# Altium footprint library PcbLib1.PcbLib: 21 footprints (part 2 of 2)
Each footprint in its own frame and in the unit in brackets; x right, y up, seen from the top. Pads: shape width x height; smd on the part's side, far side on the other; paste and mask are expansions set on the pad; w line width, h text height; cw(c..) or ccw(c..) is an arc to the next point about the centre after c.
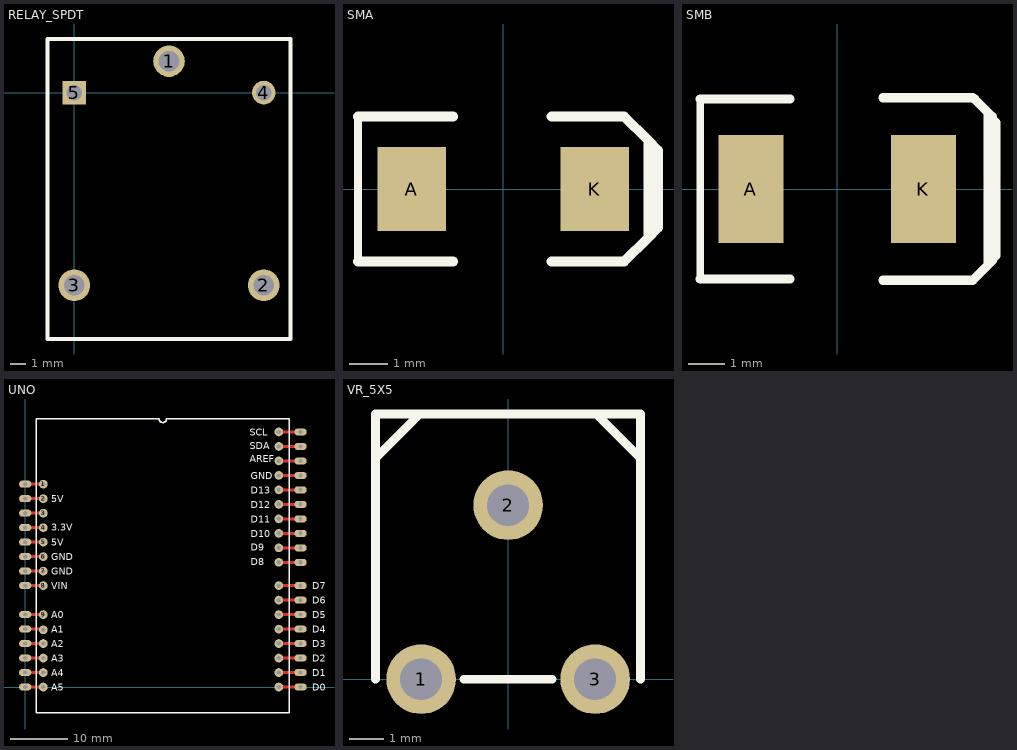
[diagram p1: the footprints below, top view; thin cyan lines are the x and y axes]

## RELAY_SPDT [mm]
pads (5):
  round 2 hole 1.3: 1(6,2) 2(12,-12.2) 3(0,-12.2)
  round 1.5 hole 1: 4(12,0)
  rect 1.5x1.5 hole 1: 5(0,0)
Top Overlay:
  lines w0.254: -1.7,-15.6 -1.7,3.4 13.7,3.4 13.7,-15.6 -1.7,-15.6

## SMA [mm]
pads (2):
  rect 1.8x2.2 smd: A(-2.4,0) K(2.4,0)
Top Overlay:
  lines w0.2: -3.81,-1.905 -3.81,1.905
  lines w0.254: -3.81,-1.905 -1.31,-1.905 ; -3.81,1.905 -1.31,1.905 ; 1.27,-1.905 3.175,-1.905 3.81,-1.27 ; 1.27,1.905 3.175,1.905 3.81,1.27 ; 3.81,-1.27 4.064,-1.016 4.064,1.016 3.81,1.27 ; 3.81,-1.27 3.81,1.27

## SMB [mm]
pads (2):
  rect 1.8x3 smd: A(-2.4,0) K(2.4,0)
Top Overlay:
  lines w0.2: -3.81,-2.5 -3.81,2.5 ; 3.81,-2.5 4.445,-1.865 4.445,1.865 3.81,2.5
  lines w0.254: -3.81,-2.5 -1.31,-2.5 ; -3.81,2.5 -1.31,2.5 ; 1.27,-2.54 3.77,-2.54 ; 1.27,2.54 3.77,2.54 3.81,2.5 3.828,2.5 4.318,2.01 4.318,-1.992 3.81,-2.5 ; 4.151,-2.159 4.191,-2.119 4.191,2.119

## UNO [mil]
pads (64):
  oval 85x50 hole 30: 1(0,1400) 2(0,1300) 3(0,1200) 4(0,1100) 5(0,1000) 6(0,900) 7(0,800) 8(0,700) 9(0,500) 10(0,400) 11(0,300) 12(0,200) 13(0,100) 14(0,0) 15(1900,0) 16(1900,100) 17(1900,200) 18(1900,300) 19(1900,400) 20(1900,500) 21(1900,600) 22(1900,700) 23(1900,860) 24(1900,960) 25(1900,1060) 26(1900,1160) 27(1900,1260) 28(1900,1360) 29(1900,1460) 30(1900,1560) 31(1900,1660) 32(1900,1760)
  round 60 hole 30: 1(125,1400) 2(125,1300) 3(125,1200) 4(125,1100) 5(125,1000) 6(125,900) 7(125,800) 8(125,700) 9(125,500) 10(125,395) 11(125,300) 12(125,200) 13(125,100) 14(125,0) 15(1750,0) 16(1750,100) 17(1750,200) 18(1750,300) 19(1750,400) 20(1750,500) 21(1750,600) 22(1750,700) 23(1750,860) 24(1750,960) 25(1750,1060) 26(1750,1160) 27(1750,1260) 28(1750,1360) 29(1750,1460) 30(1750,1560) 31(1750,1660) 32(1750,1760)
Top Layer:
  lines w20: 0,0 125,0 ; 0,100 125,100 ; 0,200 125,200 ; 0,300 125,300 ; 0,400 120,400 ; 0,500 125,500 ; 0,700 125,700 ; 0,800 125,800 ; 0,900 125,900 ; 0,1000 125,1000 ; 0,1100 125,1100 ; 0,1200 125,1200 ; 0,1300 125,1300 ; 0,1400 125,1400 ; 1750,0 1900,0 ; 1750,100 1900,100 ; 1750,200 1900,200 ; 1750,300 1900,300 ; 1750,400 1900,400 ; 1750,500 1900,500 ; 1750,600 1900,600 ; 1750,700 1900,700 ; 1750,860 1890,860 ; 1750,960 1900,960 ; 1750,1060 1900,1060 ; 1750,1160 1900,1160 ; 1750,1260 1900,1260 ; 1750,1360 1900,1360 ; 1750,1460 1900,1460 ; 1750,1560 1900,1560 ; 1750,1660 1900,1660 ; 1750,1760 1900,1760
Top Overlay:
  lines w10: 77.5,-177.17 77.5,1850 925,1850 ccw(c950,1850) 975,1850 1822.5,1850 1822.5,-177.17 77.5,-177.17
  text "SCL" at 1550,1735 h47.24
  text "SDA" at 1550,1640 h47.24
  text "AREF" at 1550,1550 h47.24
  text "GND" at 1555,1435 h47.24
  text "D13" at 1555,1335 h47.24
  text "D12" at 1555,1235 h47.24
  text "D11" at 1555,1135 h47.24
  text "D10" at 1555,1035 h47.24
  text "D9" at 1555,940 h47.24
  text "D8" at 1555,840 h47.24
  text "D7" at 1980,675 h47.24
  text "D6" at 1980,575 h47.24
  text "D5" at 1980,475 h47.24
  text "D4" at 1980,375 h47.24
  text "D3" at 1980,275 h47.24
  text "D2" at 1980,175 h47.24
  text "D1" at 1980,75 h47.24
  text "D0" at 1980,-25 h47.24
  text "A3" at 180,175 h47.24
  text "A5" at 180,-25 h47.24
  text "A4" at 180,75 h47.24
  text "A2" at 180,275 h47.24
  text "A1" at 180,375 h47.24
  text "A0" at 180,475 h47.24
  text "VIN" at 180,675 h47.24
  text "GND" at 180,775 h47.24
  text "GND" at 180,875 h47.24
  text "5V" at 180,975 h47.24
  text "3.3V" at 180,1080 h47.24
  text "5V" at 180,1275 h47.24

## VR_5X5 [mm]
height 8
pads (3):
  round 2 hole 1.2: 1(-2.5,0) 2(0,5) 3(2.5,0)
Top Overlay:
  lines w0.254: -3.81,0 -3.81,7.62 3.803,7.62 3.803,0.007 ; -3.81,6.35 -2.54,7.62 ; -1.27,0 1.27,0 ; 2.54,7.62 2.54,7.613 3.803,6.35